# Altium footprint library SnapEDApcb.PcbLib: 1 footprints
Each footprint in its own frame and in the unit in brackets; x right, y up, seen from the top. Pads: shape width x height; smd on the part's side, far side on the other; paste and mask are expansions set on the pad; w line width, h text height; cw(c..) or ccw(c..) is an arc to the next point about the centre after c.
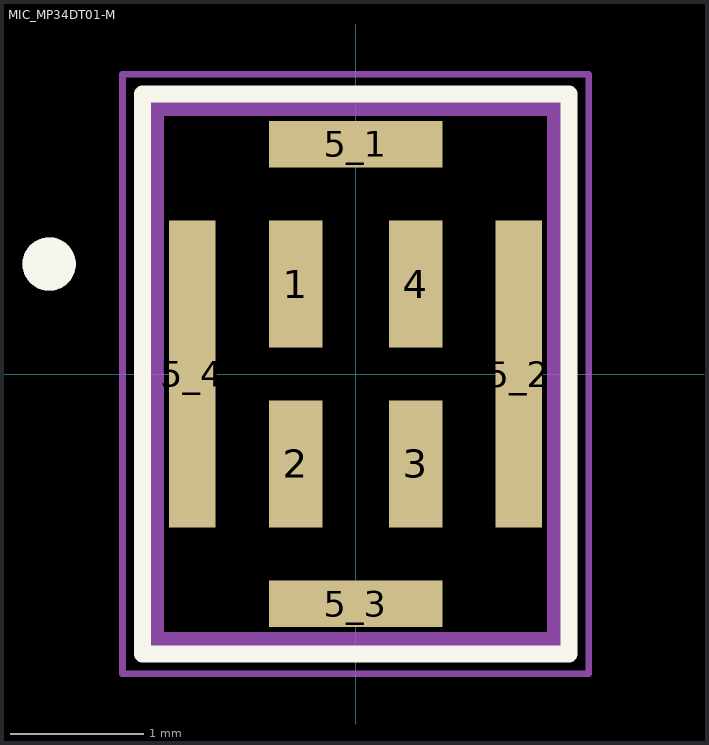
[diagram p0: the footprint, top view; thin cyan lines are the x and y axes]

## MIC_MP34DT01-M [mm]
pads (8):
  rect 0.4x0.95 smd: 1(-0.45,0.675) 2(-0.45,-0.675) 3(0.45,-0.675) 4(0.45,0.675)
  rect 1.3x0.35 smd: 5_1(0,1.725) 5_3(0,-1.725)
  rect 0.35x2.3 smd: 5_2(1.225,0) 5_4(-1.225,0)
Top Overlay:
  circle w0.2: c-2.3,0.825 r0.1
  lines w0.127: -1.6,-2.1 1.6,-2.1 1.6,2.1 -1.6,2.1 -1.6,-2.1
Mechanical 13:
  circle w0.2: c-2.3,0.825 r0.1
  lines w0.127: -1.5,-2 1.5,-2 1.5,2 -1.5,2 -1.5,-2
Mechanical 15:
  lines w0.05: -1.75,-2.25 1.75,-2.25 1.75,2.25 -1.75,2.25 -1.75,-2.25